# Altium schematic symbol library K210.SchLib: 1 symbol
Pins are listed as number, name and electrical type; pins without a type are passive.

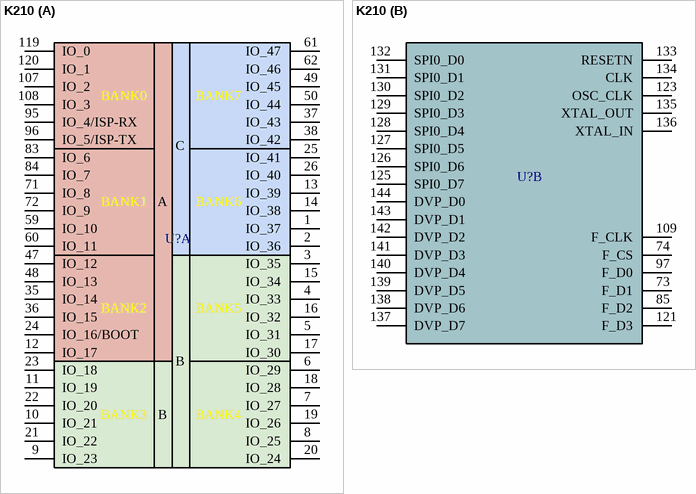
[diagram p0: symbol K210]

## K210
designator U?  (value not drawn)
Kendryte210-MCU
part A pins: 1 IO_37, 2 IO_36, 3 IO_35, 4 IO_33, 5 IO_31, 6 IO_29, 7 IO_27, 8 IO_25, 9 IO_23, 10 IO_21, 11 IO_19, 12 IO_17, 13 IO_39, 14 IO_38, 15 IO_34, 16 IO_32, 17 IO_30, 18 IO_28, 19 IO_26, 20 IO_24, 21 IO_22, 22 IO_20, 23 IO_18, 24 IO_16/BOOT, 25 IO_41, 26 IO_40, 35 IO_14, 36 IO_15, 37 IO_43, 38 IO_42, 47 IO_12, 48 IO_13, 49 IO_45, 50 IO_44, 59 IO_10, 60 IO_11, 61 IO_47, 62 IO_46, 71 IO_8, 72 IO_9, 83 IO_6, 84 IO_7, 95 IO_4/ISP-RX, 96 IO_5/ISP-TX, 107 IO_2, 108 IO_3, 119 IO_0, 120 IO_1
part B pins: 73 F_D1, 74 F_CS, 85 F_D2, 97 F_D0, 109 F_CLK, 121 F_D3, 123 OSC_CLK, 125 SPI0_D7, 126 SPI0_D6, 127 SPI0_D5, 128 SPI0_D4, 129 SPI0_D3, 130 SPI0_D2, 131 SPI0_D1, 132 SPI0_D0, 133 RESETN, 134 CLK, 135 XTAL_OUT, 136 XTAL_IN, 137 DVP_D7, 138 DVP_D6, 139 DVP_D5, 140 DVP_D4, 141 DVP_D3, 142 DVP_D2, 143 DVP_D1, 144 DVP_D0
part A text: BANK0; BANK7; C; BANK1; A; BANK6; BANK2; BANK5; B; BANK3; BANK4